# Altium integrated library RC0603FR-0725R5L.IntLib: 2 symbols
Pins are listed as number, name and electrical type; pins without a type are passive.

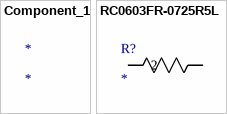
[diagram p0: symbols Component_1 to RC0603FR-0725R5L]

## Component_1
designator *

## RC0603FR-0725R5L
designator R?
No Description Available; Mfr_Name: Yageo
footprint RC0603N_YAG
pins: 1, 2